# Altium footprint library DIP762W50P254L712H400Q6N.PcbLib: 1 footprints
Each footprint in its own frame and in the unit in brackets; x right, y up, seen from the top. Pads: shape width x height; smd on the part's side, far side on the other; paste and mask are expansions set on the pad; w line width, h text height; cw(c..) or ccw(c..) is an arc to the next point about the centre after c.
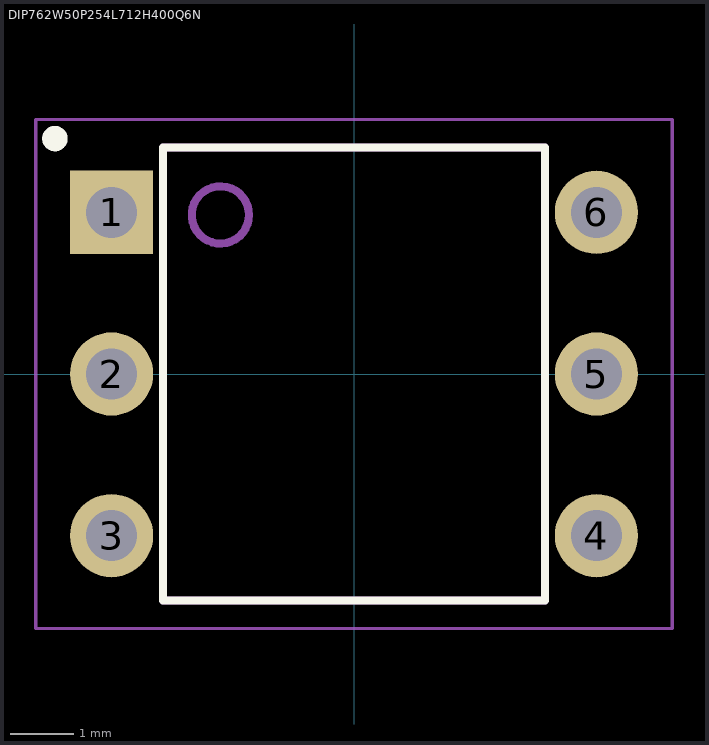
[diagram p0: the footprint, top view; thin cyan lines are the x and y axes]

## DIP762W50P254L712H400Q6N [mm]
pads (6):
  rect 1.308x1.308 / inner round 1.308 / far side rect 1.308x1.308 hole 0.8: 1(-3.81,2.54)
  round 1.308 hole 0.8: 2(-3.81,0) 3(-3.81,-2.54) 4(3.81,-2.54) 5(3.81,0) 6(3.81,2.54)
Top Overlay:
  circle w0.2: c-4.7,3.7 r0.1
  lines w0.127: -3,-3.56 -3,3.56 3,3.56 3,-3.56 -3,-3.56
Assembly Top:
  circle w0.127: c-2.1,2.5 r0.45
  lines w0.127: -3,-3.56 -3,3.56 3,3.56 3,-3.56 -3,-3.56
Courtyard Top:
  lines w0.05: -5,-4 -5,4 5,4 5,-4 -5,-4
3D body "step_temp.STEP": height 4, standoff -3, extent -3.976,-3.56 3.976,3.56